# EAGLE library part TX2 (library dl9sec_public)
Panasonix TX2 relay https://www.panasonic-electric-works.com/pew/de/downloads/ds_61022_en_tx.pdf
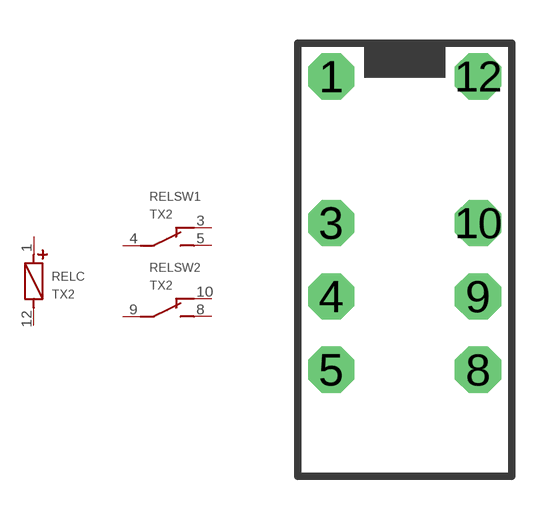
[diagram p12: symbol with the pads of RELTX2; footprint RELTX2]

Designator prefix REL; gates C=RELCOIL SW1=RELSPDT SW2=RELSPDT

## TX2-5V  [RELTX2]
1  C:+  pwr
3  SW1:NC  pas
4  SW1:COM  pas
5  SW1:NO  pas
8  SW2:NO  pas
9  SW2:COM  pas
10  SW2:NC  pas
12  C:-  pwr

## Footprint RELTX2 (pad centres in mm)
Panasonic TX2 relay
drill 0.9 pad 1.6 octagon: 1 -2.54,6.35; 3 -2.54,1.27; 4 -2.54,-1.27; 5 -2.54,-3.81; 8 2.54,-3.81; 9 2.54,-1.27; 10 2.54,1.27; 12 2.54,6.35